# EAGLE library part TXS0104E (library ublox)
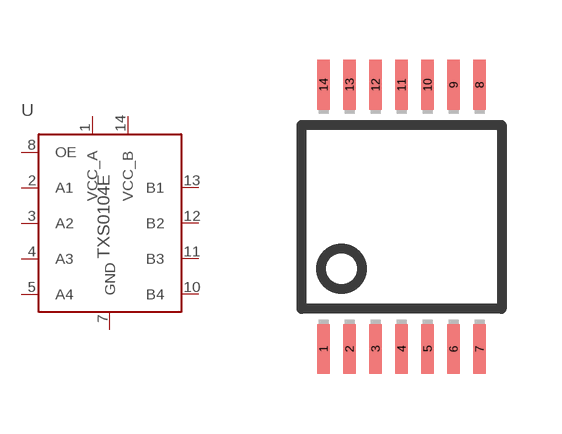
[diagram p10: symbol with the pads of SSOP14; footprint SSOP14]

Designator prefix -

## TXS0104E  [SSOP14]
1  VCC_A
2  A1
3  A2
4  A3
5  A4
7  GND
8  OE
10  B4
11  B3
12  B2
13  B1
14  VCC_B

## Footprint SSOP14 (pad centres in mm)
smd 0.304 x 1.245: 1 -1.95,-3.3; 2 -1.3,-3.3; 3 -0.65,-3.3; 4 0,-3.3; 5 0.65,-3.3; 6 1.3,-3.3; 7 1.95,-3.3; 8 1.95,3.3; 9 1.3,3.3; 10 0.65,3.3; 11 0,3.3; 12 -0.65,3.3; 13 -1.3,3.3; 14 -1.95,3.3